# EAGLE library part HMC5883L (library pepelac)
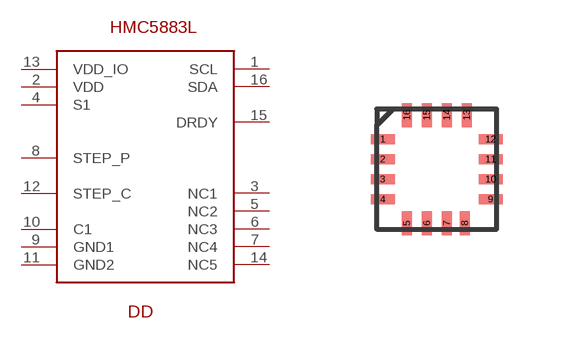
[diagram p2: symbol with the pads of LCC-16; footprint LCC-16]

Designator prefix DD

## HMC5883L  [LCC-16]
1  SCL
2  VDD
3  NC1
4  S1
5  NC2
6  NC3
7  NC4
8  STEP_P
9  GND1
10  C1
11  GND2
12  STEP_C
13  VDD_IO
14  NC5
15  DRDY
16  SDA

## Footprint LCC-16 (pad centres in mm)
LEADLESS CERAMIC CHIP CARRIER
smd 0.6 x 0.25: 1 -1.35,0.85; 2 -1.35,0.35; 3 -1.35,-0.15; 4 -1.35,-0.65; 9 1.35,-0.65; 10 1.35,-0.15; 11 1.35,0.35; 12 1.35,0.85
smd 0.25 x 0.6: 5 -0.75,-1.25; 6 -0.25,-1.25; 7 0.25,-1.25; 8 0.7,-1.25; 13 0.75,1.45; 14 0.25,1.45; 15 -0.25,1.45; 16 -0.75,1.45